# Altium footprint library IDC2.54-V14D.PcbLib: 1 footprints
Each footprint in its own frame and in the unit in brackets; x right, y up, seen from the top. Pads: shape width x height; smd on the part's side, far side on the other; paste and mask are expansions set on the pad; w line width, h text height; cw(c..) or ccw(c..) is an arc to the next point about the centre after c.
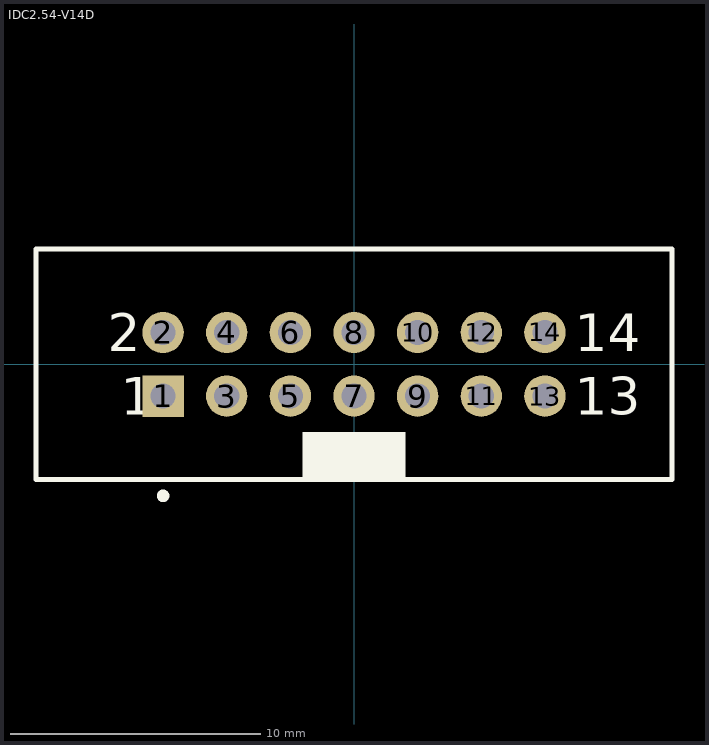
[diagram p0: the footprint, top view; thin cyan lines are the x and y axes]

## IDC2.54-V14D [mm] "Connector; IDC, Low Profile Male Header, Thru-Hole; 14 Position; Vertical; Pitch 2.54 mm; Body 25.40 x 9.2 x 9.45 mm (LxWxH)"
height 9.45
pads (14):
  rect 1.65x1.65 hole 1: 1(-7.62,-1.27)
  round 1.65 hole 1: 2(-7.62,1.27) 3(-5.08,-1.27) 4(-5.08,1.27) 5(-2.54,-1.27) 6(-2.54,1.27) 7(0,-1.27) 8(0,1.27) 9(2.54,-1.27) 10(2.54,1.27) 11(5.08,-1.27) 12(5.08,1.27) 13(7.62,-1.27) 14(7.62,1.27)
Top Overlay:
  circle w0.25: c-7.62,-5.25 r0.125
  rectangle: -2.05,-4.6 2.05,-2.7
  lines w0.2: -12.7,-4.6 12.7,-4.6 12.7,4.6 -12.7,4.6 -12.7,-4.6
  text "13" at 8.82,-2.02 h1.5
  text "14" at 8.82,0.52 h1.5
  text "1" at -9.32,-2.02 h1.5
  text "2" at -9.82,0.52 h1.5
Mechanical 13:
  lines w0.1: -12.7,-4.6 -12.7,4.6 12.7,4.6 12.7,-4.6 -12.7,-4.6
3D body: height 9.45, standoff 0, extent -12.7,-4.6 12.7,4.6